# Altium footprint library CAP 0402.PcbLib: 1 footprints
Each footprint in its own frame and in the unit in brackets; x right, y up, seen from the top. Pads: shape width x height; smd on the part's side, far side on the other; paste and mask are expansions set on the pad; w line width, h text height; cw(c..) or ccw(c..) is an arc to the next point about the centre after c.
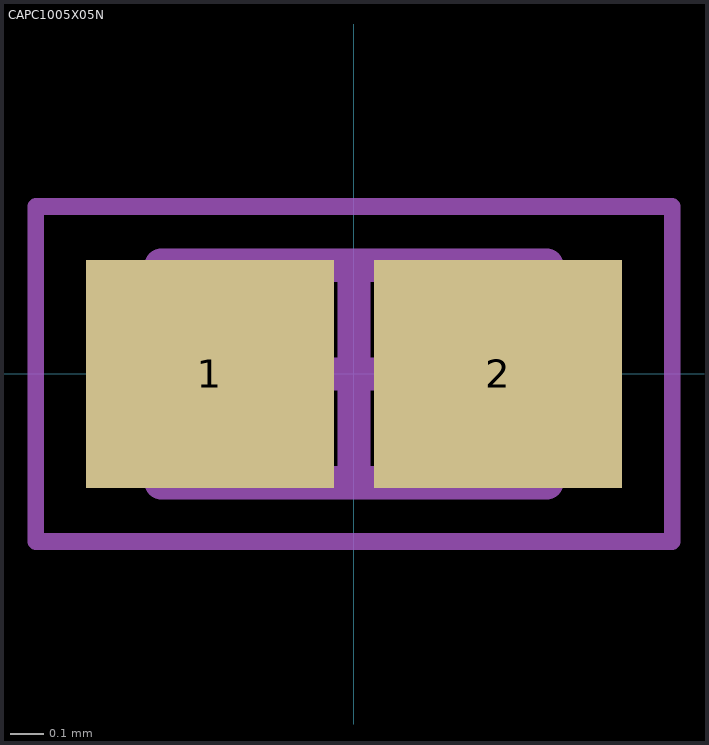
[diagram p0: the footprint, top view; thin cyan lines are the x and y axes]

## CAPC1005X05N [mm] "Chip Capacitor, 2-Leads, Body 1,00x0,50mm, IPC Medium Density"
height 0.5
pads (2):
  rect 0.74x0.68 smd: 1(-0.43,0) 2(0.43,0)
Mechanical 13:
  lines w0.1: -0.575,-0.325 -0.575,0.325 0.575,0.325 0.575,-0.325 -0.575,-0.325
Mechanical 15:
  lines w0.05: -0.95,-0.5 -0.95,0.5 0.95,0.5 0.95,-0.5 -0.95,-0.5
  lines w0.1: -0.325,0 0.325,0 ; 0,-0.325 0,0.325
3D body "User Library-Capacitor 0402.step": height 0.5, standoff 0, extent -0.5,-0.25 0.5,0.25